# EAGLE library part TL072 (library uBraids_SE)
OP AMP
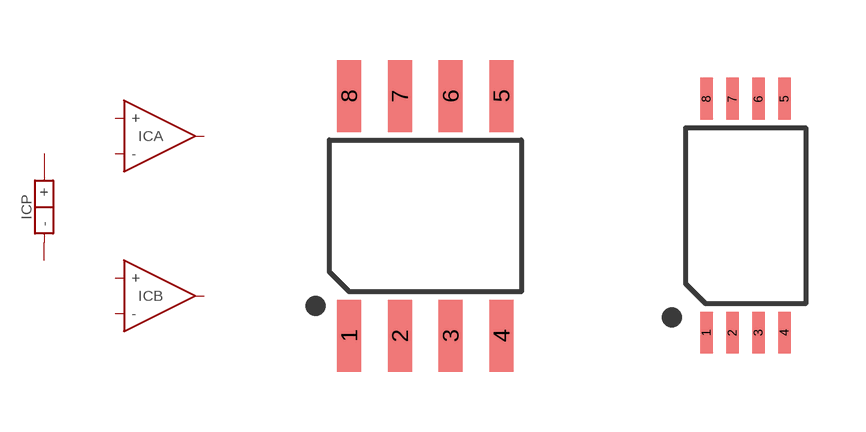
[diagram p7: symbol with the pads of SO-8; footprints SO-8, TSSOP-8]

Designator prefix IC; gates A=OPAMP B=OPAMP P=POWER

## TL072-SO-8  [SO-8]
1  A:OUT  out
2  A:-  in
3  A:+  in
4  P:-
5  B:+  in
6  B:-  in
7  B:OUT  out
8  P:+

## TL072-TSSOP-8  [TSSOP-8]
Pads as for SO-8

## Footprint SO-8 (pad centres in mm)
Small Outline Package 8 NS Package M08A
smd 0.6 x 1.8: 1 -1.905,-3; 2 -0.635,-3; 3 0.635,-3; 4 1.905,-3; 5 1.905,3; 6 0.635,3; 7 -0.635,3; 8 -1.905,3

## Footprint TSSOP-8 (pad centres in mm)
smd 0.32 x 1.05: 1 -0.975,-2.925; 2 -0.325,-2.925; 3 0.325,-2.925; 4 0.975,-2.925; 5 0.975,2.925; 6 0.325,2.925; 7 -0.325,2.925; 8 -0.975,2.925